# EAGLE library part 68610614122 (library Wuerth_Elektronik_eiCan_03_ZIF_Connectors_Flat_Flexible_Cable)
WR-FPC 1.00mm SMT ZIF Horizontal Top Contact, 6 Pins
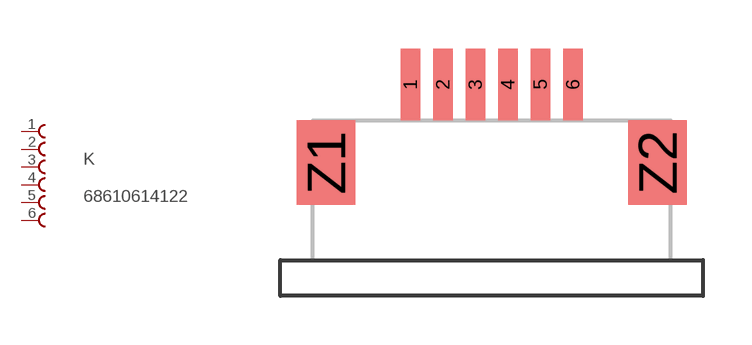
[diagram p56: symbol with the pads of 68610614122; footprint 68610614122]

Designator prefix K

## 68610614122  [68610614122]
1  1  pas
2  2  pas
3  3  pas
4  4  pas
5  5  pas
6  6  pas

## Footprint 68610614122 (pad centres in mm)
WR-FPC 1.00mm SMT ZIF Horizontal Top Contact, 6 Pins
smd 0.6 x 2.2: 1 -2.5,1.1; 2 -1.5,1.1; 3 -0.5,1.1; 4 0.5,1.1; 5 1.5,1.1; 6 2.5,1.1
smd 1.8 x 2.6: Z1 -5.1,-1.3; Z2 5.1,-1.3